# EAGLE library part CC2592RGVT (library Texas Instruments)
2.4-GHz RF Front End
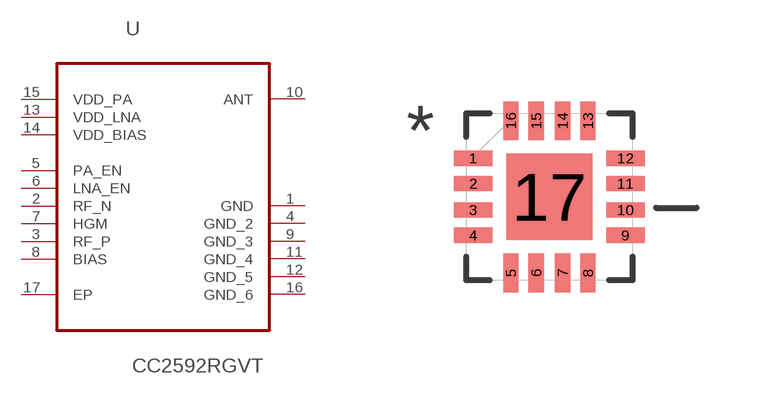
[diagram p1: symbol with the pads of QFN65P400X400X100-17N; footprint QFN65P400X400X100-17N]

Designator prefix U

## CC2592RGVT (MPN: CC2591RGVT; OC_FARNELL: 1631624; OC_NEWARK: 14N9001; PACKAGE: QFN-16; SUPPLIER: Texas Instruments)  [QFN65P400X400X100-17N]
1  GND  pas
2  RF_N  pas
3  RF_P  pas
4  GND_2  pas
5  PA_EN  in
6  LNA_EN  in
7  HGM  in
8  BIAS  in
9  GND_3  pas
10  ANT  pas
11  GND_4  pas
12  GND_5  pas
13  VDD_LNA  pwr
14  VDD_BIAS  pwr
15  VDD_PA  pwr
16  GND_6  pas
17  EP  pas

## Footprint QFN65P400X400X100-17N (pad centres in mm)
smd 0.965 x 0.381: 1 -1.905,0.965; 2 -1.905,0.33; 3 -1.905,-0.33; 4 -1.905,-0.965; 9 1.905,-0.965; 10 1.905,-0.33; 11 1.905,0.33; 12 1.905,0.965
smd 0.381 x 0.965: 5 -0.965,-1.905; 6 -0.33,-1.905; 7 0.33,-1.905; 8 0.965,-1.905; 13 0.965,1.905; 14 0.33,1.905; 15 -0.33,1.905; 16 -0.965,1.905
smd 2.159 x 2.159: 17 0,0